# Altium footprint library Connector_PinHeader_2.54mm.PcbLib: 278 footprints (part 12 of 18)
Each footprint in its own frame and in the unit in brackets; x right, y up, seen from the top. Pads: shape width x height; smd on the part's side, far side on the other; paste and mask are expansions set on the pad; w line width, h text height; cw(c..) or ccw(c..) is an arc to the next point about the centre after c.
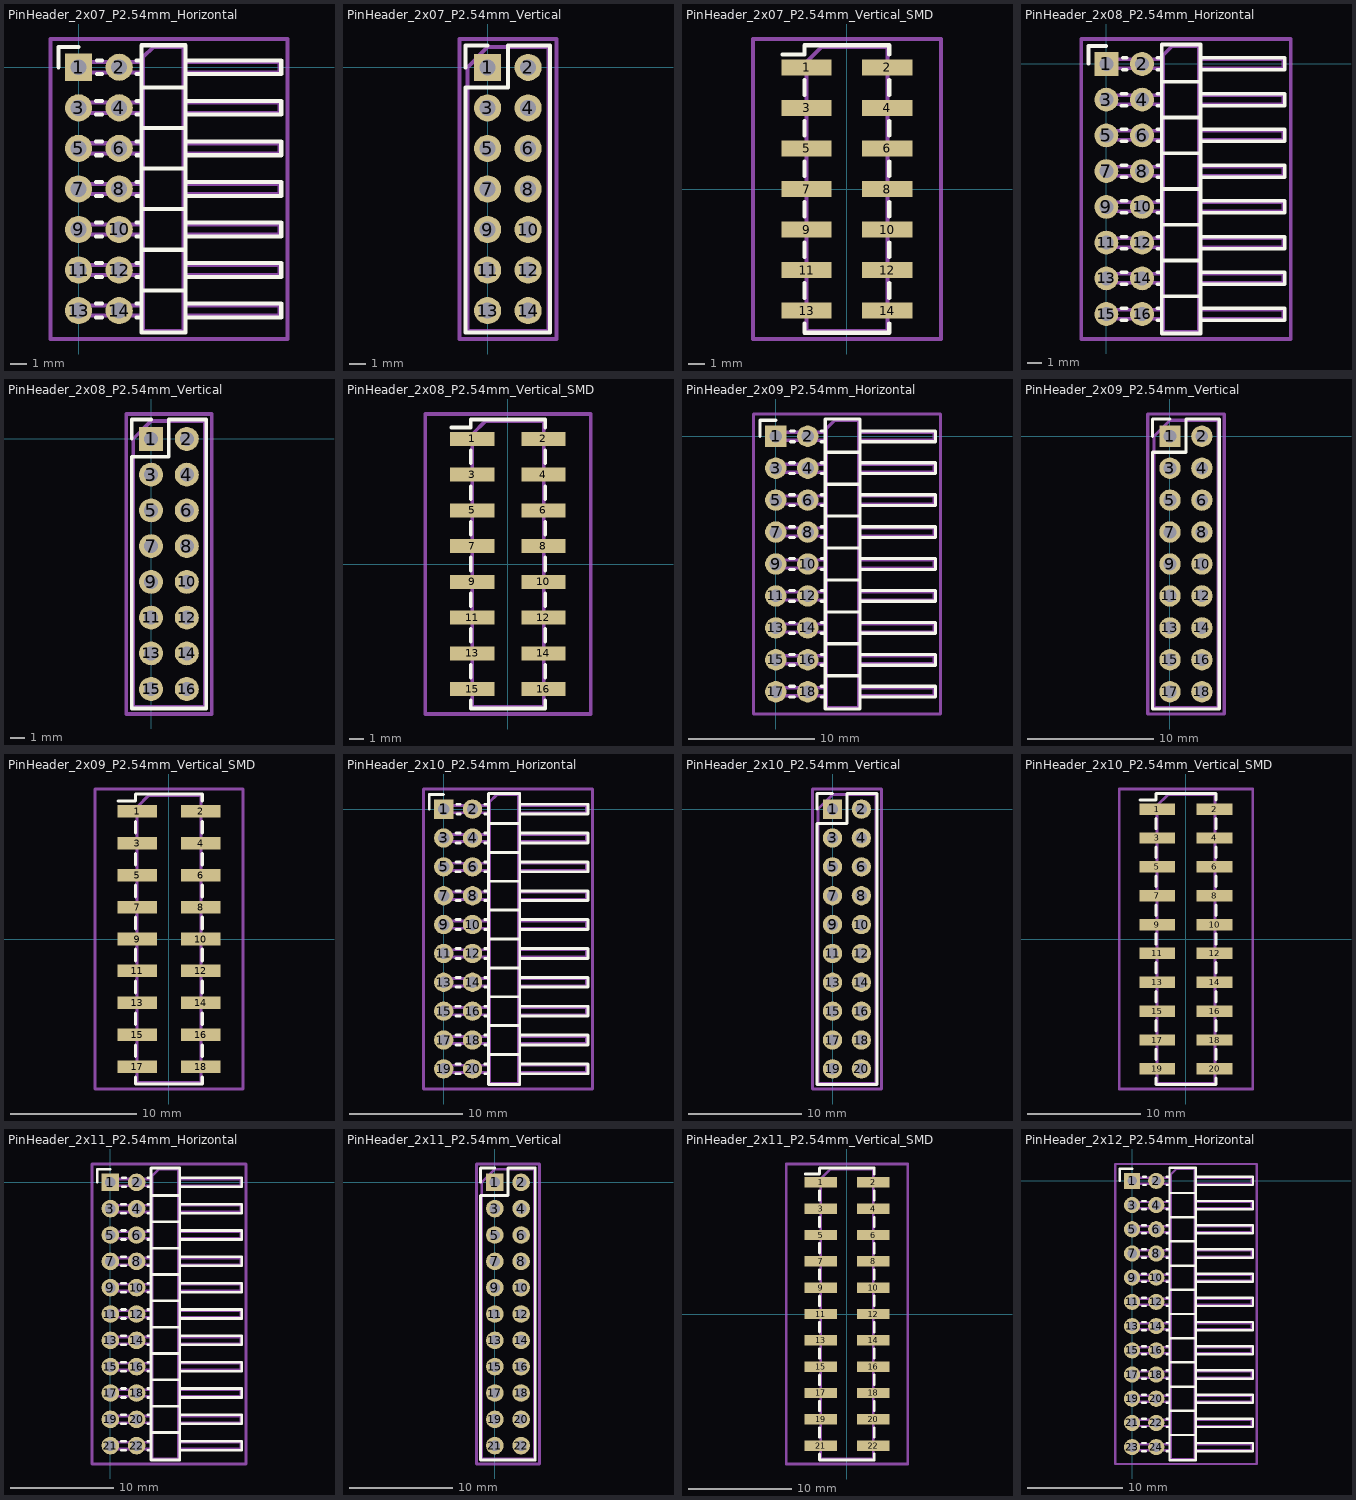
[diagram p11: the footprints below, top view; thin cyan lines are the x and y axes]

## PinHeader_2x07_P2.54mm_Horizontal [mm]
pads (14):
  rect 1.7x1.7 hole 1: 1(0,0)
  round 1.7 hole 1: 2(2.54,0) 3(0,-2.54) 4(2.54,-2.54) 5(0,-5.08) 6(2.54,-5.08) 7(0,-7.62) 8(2.54,-7.62) 9(0,-10.16) 10(2.54,-10.16) 11(0,-12.7) 12(2.54,-12.7) 13(0,-15.24) 14(2.54,-15.24)
F.SilkS:
  lines w0.254: -1.27,0 -1.27,1.27 0,1.27 ; 1.077,-15.67 1.463,-15.67 ; 1.077,-14.81 1.463,-14.81 ; 1.077,-13.13 1.463,-13.13 ; 1.077,-12.27 1.463,-12.27 ; 1.077,-10.59 1.463,-10.59 ; 1.077,-9.73 1.463,-9.73 ; 1.077,-8.05 1.463,-8.05 ; 1.077,-7.19 1.463,-7.19 ; 1.077,-5.51 1.463,-5.51 ; 1.077,-4.65 1.463,-4.65 ; 1.077,-2.97 1.463,-2.97 ; 1.077,-2.11 1.463,-2.11 ; 1.16,-0.43 1.463,-0.43 ; 1.16,0.43 1.463,0.43 ; 3.617,-15.67 3.93,-15.67 ; 3.617,-14.81 3.93,-14.81 ; 3.617,-13.13 3.93,-13.13 ; 3.617,-12.27 3.93,-12.27 ; 3.617,-10.59 3.93,-10.59 ; 3.617,-9.73 3.93,-9.73 ; 3.617,-8.05 3.93,-8.05 ; 3.617,-7.19 3.93,-7.19 ; 3.617,-5.51 3.93,-5.51 ; 3.617,-4.65 3.93,-4.65 ; 3.617,-2.97 3.93,-2.97 ; 3.617,-2.11 3.93,-2.11 ; 3.617,-0.43 3.93,-0.43 ; 3.617,0.43 3.93,0.43 ; 3.93,-13.97 6.69,-13.97 ; 3.93,-11.43 6.69,-11.43 ; 3.93,-8.89 6.69,-8.89 ; 3.93,-6.35 6.69,-6.35 ; 3.93,-3.81 6.69,-3.81 ; 3.93,-1.27 6.69,-1.27 ; 6.69,-15.67 12.69,-15.67 12.69,-14.81 6.69,-14.81 ; 6.69,-13.13 12.69,-13.13 12.69,-12.27 6.69,-12.27 ; 6.69,-10.59 12.69,-10.59 12.69,-9.73 6.69,-9.73 ; 6.69,-8.05 12.69,-8.05 12.69,-7.19 6.69,-7.19 ; 6.69,-5.51 12.69,-5.51 12.69,-4.65 6.69,-4.65 ; 6.69,-2.97 12.69,-2.97 12.69,-2.11 6.69,-2.11 ; 3.93,-16.62 6.69,-16.62 6.69,1.38 3.93,1.38 3.93,-16.62 ; 6.69,-0.43 12.69,-0.43 12.69,0.43 6.69,0.43 6.69,-0.43
Top Assembly:
  lines w0.254: 4.04,-15.56 -0.32,-15.56 -0.32,-14.92 4.04,-14.92 ; 4.04,-13.02 -0.32,-13.02 -0.32,-12.38 4.04,-12.38 ; 4.04,-10.48 -0.32,-10.48 -0.32,-9.84 4.04,-9.84 ; 4.04,-7.94 -0.32,-7.94 -0.32,-7.3 4.04,-7.3 ; 4.04,-5.4 -0.32,-5.4 -0.32,-4.76 4.04,-4.76 ; 4.04,-2.86 -0.32,-2.86 -0.32,-2.22 4.04,-2.22 ; 4.04,-0.32 -0.32,-0.32 -0.32,0.32 4.04,0.32 ; 6.58,-15.56 12.58,-15.56 12.58,-14.92 6.58,-14.92 ; 6.58,-13.02 12.58,-13.02 12.58,-12.38 6.58,-12.38 ; 6.58,-10.48 12.58,-10.48 12.58,-9.84 6.58,-9.84 ; 6.58,-7.94 12.58,-7.94 12.58,-7.3 6.58,-7.3 ; 6.58,-5.4 12.58,-5.4 12.58,-4.76 6.58,-4.76 ; 6.58,-2.86 12.58,-2.86 12.58,-2.22 6.58,-2.22 ; 6.58,-0.32 12.58,-0.32 12.58,0.32 6.58,0.32 ; 4.04,-16.51 6.58,-16.51 6.58,1.27 4.675,1.27 4.04,0.635 4.04,-16.51
  text "'.Designator'" at 6.15,-11.667 h1
Top Courtyard:
  lines w0.254: -1.77,-17.02 13.09,-17.02 13.09,1.77 -1.77,1.77 -1.77,-17.02
Top Designator:
  text ".Designator" at -1.958,-8.133 h1.52

## PinHeader_2x07_P2.54mm_Vertical [mm]
pads (14):
  rect 1.7x1.7 hole 1: 1(0,0)
  round 1.7 hole 1: 2(2.54,0) 3(0,-2.54) 4(2.54,-2.54) 5(0,-5.08) 6(2.54,-5.08) 7(0,-7.62) 8(2.54,-7.62) 9(0,-10.16) 10(2.54,-10.16) 11(0,-12.7) 12(2.54,-12.7) 13(0,-15.24) 14(2.54,-15.24)
F.SilkS:
  lines w0.254: -1.38,0 -1.38,1.38 0,1.38 ; -1.38,-16.62 3.92,-16.62 3.92,1.38 1.27,1.38 1.27,-1.27 -1.38,-1.27 -1.38,-16.62
Top Assembly:
  lines w0.254: -1.27,-16.51 3.81,-16.51 3.81,1.27 0,1.27 -1.27,0 -1.27,-16.51
  text "'.Designator'" at 2.11,-11.667 h1
Top Courtyard:
  lines w0.254: -1.77,-17.02 4.32,-17.02 4.32,1.78 -1.77,1.78 -1.77,-17.02
Top Designator:
  text ".Designator" at -6.343,-8.128 h1.52

## PinHeader_2x07_P2.54mm_Vertical_SMD [mm]
pads (14):
  rect 3.15x1 smd: 1(-2.525,7.62) 2(2.525,7.62) 3(-2.525,5.08) 4(2.525,5.08) 5(-2.525,2.54) 6(2.525,2.54) 7(-2.525,0) 8(2.525,0) 9(-2.525,-2.54) 10(2.525,-2.54) 11(-2.525,-5.08) 12(2.525,-5.08) 13(-2.525,-7.62) 14(2.525,-7.62)
F.SilkS:
  lines w0.254: -4.04,8.43 -2.65,8.43 -2.65,9 2.65,9 2.65,8.43 ; -2.65,-8.43 -2.65,-9 2.65,-9 2.65,-8.43 ; -2.65,-6.81 -2.65,-5.89 ; -2.65,-4.27 -2.65,-3.35 ; -2.65,-1.73 -2.65,-0.81 ; -2.65,0.81 -2.65,1.73 ; -2.65,3.35 -2.65,4.27 ; -2.65,5.89 -2.65,6.81 ; 2.65,-6.81 2.65,-5.89 ; 2.65,-4.27 2.65,-3.35 ; 2.65,-1.73 2.65,-0.81 ; 2.65,0.81 2.65,1.73 ; 2.65,3.35 2.65,4.27 ; 2.65,5.89 2.65,6.81
Top Assembly:
  lines w0.254: -2.54,-7.94 -3.6,-7.94 -3.6,-7.3 -2.54,-7.3 ; -2.54,-5.4 -3.6,-5.4 -3.6,-4.76 -2.54,-4.76 ; -2.54,-2.86 -3.6,-2.86 -3.6,-2.22 -2.54,-2.22 ; -2.54,-0.32 -3.6,-0.32 -3.6,0.32 -2.54,0.32 ; -2.54,2.22 -3.6,2.22 -3.6,2.86 -2.54,2.86 ; -2.54,4.76 -3.6,4.76 -3.6,5.4 -2.54,5.4 ; -2.54,7.3 -3.6,7.3 -3.6,7.94 -2.54,7.94 ; 2.54,-7.94 3.6,-7.94 3.6,-7.3 2.54,-7.3 ; 2.54,-5.4 3.6,-5.4 3.6,-4.76 2.54,-4.76 ; 2.54,-2.86 3.6,-2.86 3.6,-2.22 2.54,-2.22 ; 2.54,-0.32 3.6,-0.32 3.6,0.32 2.54,0.32 ; 2.54,2.22 3.6,2.22 3.6,2.86 2.54,2.86 ; 2.54,4.76 3.6,4.76 3.6,5.4 2.54,5.4 ; 2.54,7.3 3.6,7.3 3.6,7.94 2.54,7.94 ; -2.54,7.94 -2.54,-8.89 2.54,-8.89 2.54,8.89 -1.59,8.89 -2.54,7.94
  text "'.Designator'" at 0.84,-4.047 h1
Top Courtyard:
  lines w0.254: -5.87,-9.39 5.88,-9.39 5.88,9.39 -5.87,9.39 -5.87,-9.39
Top Designator:
  text ".Designator" at -7.613,-0.508 h1.52

## PinHeader_2x08_P2.54mm_Horizontal [mm]
pads (16):
  rect 1.7x1.7 hole 1: 1(0,0)
  round 1.7 hole 1: 2(2.54,0) 3(0,-2.54) 4(2.54,-2.54) 5(0,-5.08) 6(2.54,-5.08) 7(0,-7.62) 8(2.54,-7.62) 9(0,-10.16) 10(2.54,-10.16) 11(0,-12.7) 12(2.54,-12.7) 13(0,-15.24) 14(2.54,-15.24) 15(0,-17.78) 16(2.54,-17.78)
F.SilkS:
  lines w0.254: -1.27,0 -1.27,1.27 0,1.27 ; 1.077,-18.21 1.463,-18.21 ; 1.077,-17.35 1.463,-17.35 ; 1.077,-15.67 1.463,-15.67 ; 1.077,-14.81 1.463,-14.81 ; 1.077,-13.13 1.463,-13.13 ; 1.077,-12.27 1.463,-12.27 ; 1.077,-10.59 1.463,-10.59 ; 1.077,-9.73 1.463,-9.73 ; 1.077,-8.05 1.463,-8.05 ; 1.077,-7.19 1.463,-7.19 ; 1.077,-5.51 1.463,-5.51 ; 1.077,-4.65 1.463,-4.65 ; 1.077,-2.97 1.463,-2.97 ; 1.077,-2.11 1.463,-2.11 ; 1.16,-0.43 1.463,-0.43 ; 1.16,0.43 1.463,0.43 ; 3.617,-18.21 3.93,-18.21 ; 3.617,-17.35 3.93,-17.35 ; 3.617,-15.67 3.93,-15.67 ; 3.617,-14.81 3.93,-14.81 ; 3.617,-13.13 3.93,-13.13 ; 3.617,-12.27 3.93,-12.27 ; 3.617,-10.59 3.93,-10.59 ; 3.617,-9.73 3.93,-9.73 ; 3.617,-8.05 3.93,-8.05 ; 3.617,-7.19 3.93,-7.19 ; 3.617,-5.51 3.93,-5.51 ; 3.617,-4.65 3.93,-4.65 ; 3.617,-2.97 3.93,-2.97 ; 3.617,-2.11 3.93,-2.11 ; 3.617,-0.43 3.93,-0.43 ; 3.617,0.43 3.93,0.43 ; 3.93,-16.51 6.69,-16.51 ; 3.93,-13.97 6.69,-13.97 ; 3.93,-11.43 6.69,-11.43 ; 3.93,-8.89 6.69,-8.89 ; 3.93,-6.35 6.69,-6.35 ; 3.93,-3.81 6.69,-3.81 ; 3.93,-1.27 6.69,-1.27 ; 6.69,-18.21 12.69,-18.21 12.69,-17.35 6.69,-17.35 ; 6.69,-15.67 12.69,-15.67 12.69,-14.81 6.69,-14.81 ; 6.69,-13.13 12.69,-13.13 12.69,-12.27 6.69,-12.27 ; 6.69,-10.59 12.69,-10.59 12.69,-9.73 6.69,-9.73 ; 6.69,-8.05 12.69,-8.05 12.69,-7.19 6.69,-7.19 ; 6.69,-5.51 12.69,-5.51 12.69,-4.65 6.69,-4.65 ; 6.69,-2.97 12.69,-2.97 12.69,-2.11 6.69,-2.11 ; 3.93,-19.16 6.69,-19.16 6.69,1.38 3.93,1.38 3.93,-19.16 ; 6.69,-0.43 12.69,-0.43 12.69,0.43 6.69,0.43 6.69,-0.43
Top Assembly:
  lines w0.254: 4.04,-18.1 -0.32,-18.1 -0.32,-17.46 4.04,-17.46 ; 4.04,-15.56 -0.32,-15.56 -0.32,-14.92 4.04,-14.92 ; 4.04,-13.02 -0.32,-13.02 -0.32,-12.38 4.04,-12.38 ; 4.04,-10.48 -0.32,-10.48 -0.32,-9.84 4.04,-9.84 ; 4.04,-7.94 -0.32,-7.94 -0.32,-7.3 4.04,-7.3 ; 4.04,-5.4 -0.32,-5.4 -0.32,-4.76 4.04,-4.76 ; 4.04,-2.86 -0.32,-2.86 -0.32,-2.22 4.04,-2.22 ; 4.04,-0.32 -0.32,-0.32 -0.32,0.32 4.04,0.32 ; 6.58,-18.1 12.58,-18.1 12.58,-17.46 6.58,-17.46 ; 6.58,-15.56 12.58,-15.56 12.58,-14.92 6.58,-14.92 ; 6.58,-13.02 12.58,-13.02 12.58,-12.38 6.58,-12.38 ; 6.58,-10.48 12.58,-10.48 12.58,-9.84 6.58,-9.84 ; 6.58,-7.94 12.58,-7.94 12.58,-7.3 6.58,-7.3 ; 6.58,-5.4 12.58,-5.4 12.58,-4.76 6.58,-4.76 ; 6.58,-2.86 12.58,-2.86 12.58,-2.22 6.58,-2.22 ; 6.58,-0.32 12.58,-0.32 12.58,0.32 6.58,0.32 ; 4.04,-19.05 6.58,-19.05 6.58,1.27 4.675,1.27 4.04,0.635 4.04,-19.05
  text "'.Designator'" at 6.15,-12.937 h1
Top Courtyard:
  lines w0.254: -1.77,-19.55 13.09,-19.55 13.09,1.77 -1.77,1.77 -1.77,-19.55
Top Designator:
  text ".Designator" at -1.958,-9.398 h1.52

## PinHeader_2x08_P2.54mm_Vertical [mm]
pads (16):
  rect 1.7x1.7 hole 1: 1(0,0)
  round 1.7 hole 1: 2(2.54,0) 3(0,-2.54) 4(2.54,-2.54) 5(0,-5.08) 6(2.54,-5.08) 7(0,-7.62) 8(2.54,-7.62) 9(0,-10.16) 10(2.54,-10.16) 11(0,-12.7) 12(2.54,-12.7) 13(0,-15.24) 14(2.54,-15.24) 15(0,-17.78) 16(2.54,-17.78)
F.SilkS:
  lines w0.254: -1.38,0 -1.38,1.38 0,1.38 ; -1.38,-19.16 3.92,-19.16 3.92,1.38 1.27,1.38 1.27,-1.27 -1.38,-1.27 -1.38,-19.16
Top Assembly:
  lines w0.254: -1.27,-19.05 3.81,-19.05 3.81,1.27 0,1.27 -1.27,0 -1.27,-19.05
  text "'.Designator'" at 2.11,-12.937 h1
Top Courtyard:
  lines w0.254: -1.77,-19.55 4.32,-19.55 4.32,1.77 -1.77,1.77 -1.77,-19.55
Top Designator:
  text ".Designator" at -6.343,-9.398 h1.52

## PinHeader_2x08_P2.54mm_Vertical_SMD [mm]
pads (16):
  rect 3.15x1 smd: 1(-2.525,8.89) 2(2.525,8.89) 3(-2.525,6.35) 4(2.525,6.35) 5(-2.525,3.81) 6(2.525,3.81) 7(-2.525,1.27) 8(2.525,1.27) 9(-2.525,-1.27) 10(2.525,-1.27) 11(-2.525,-3.81) 12(2.525,-3.81) 13(-2.525,-6.35) 14(2.525,-6.35) 15(-2.525,-8.89) 16(2.525,-8.89)
F.SilkS:
  lines w0.254: -4.04,9.7 -2.65,9.7 -2.65,10.27 2.65,10.27 2.65,9.7 ; -2.65,-9.7 -2.65,-10.27 2.65,-10.27 2.65,-9.7 ; -2.65,-8.08 -2.65,-7.16 ; -2.65,-5.54 -2.65,-4.62 ; -2.65,-3 -2.65,-2.08 ; -2.65,-0.46 -2.65,0.46 ; -2.65,2.08 -2.65,3 ; -2.65,4.62 -2.65,5.54 ; -2.65,7.16 -2.65,8.08 ; 2.65,-8.08 2.65,-7.16 ; 2.65,-5.54 2.65,-4.62 ; 2.65,-3 2.65,-2.08 ; 2.65,-0.46 2.65,0.46 ; 2.65,2.08 2.65,3 ; 2.65,4.62 2.65,5.54 ; 2.65,7.16 2.65,8.08
Top Assembly:
  lines w0.254: -2.54,-9.21 -3.6,-9.21 -3.6,-8.57 -2.54,-8.57 ; -2.54,-6.67 -3.6,-6.67 -3.6,-6.03 -2.54,-6.03 ; -2.54,-4.13 -3.6,-4.13 -3.6,-3.49 -2.54,-3.49 ; -2.54,-1.59 -3.6,-1.59 -3.6,-0.95 -2.54,-0.95 ; -2.54,0.95 -3.6,0.95 -3.6,1.59 -2.54,1.59 ; -2.54,3.49 -3.6,3.49 -3.6,4.13 -2.54,4.13 ; -2.54,6.03 -3.6,6.03 -3.6,6.67 -2.54,6.67 ; -2.54,8.57 -3.6,8.57 -3.6,9.21 -2.54,9.21 ; 2.54,-9.21 3.6,-9.21 3.6,-8.57 2.54,-8.57 ; 2.54,-6.67 3.6,-6.67 3.6,-6.03 2.54,-6.03 ; 2.54,-4.13 3.6,-4.13 3.6,-3.49 2.54,-3.49 ; 2.54,-1.59 3.6,-1.59 3.6,-0.95 2.54,-0.95 ; 2.54,0.95 3.6,0.95 3.6,1.59 2.54,1.59 ; 2.54,3.49 3.6,3.49 3.6,4.13 2.54,4.13 ; 2.54,6.03 3.6,6.03 3.6,6.67 2.54,6.67 ; 2.54,8.57 3.6,8.57 3.6,9.21 2.54,9.21 ; -2.54,9.21 -2.54,-10.16 2.54,-10.16 2.54,10.16 -1.59,10.16 -2.54,9.21
  text "'.Designator'" at 0.84,-4.047 h1
Top Courtyard:
  lines w0.254: -5.87,-10.66 5.88,-10.66 5.88,10.66 -5.87,10.66 -5.87,-10.66
Top Designator:
  text ".Designator" at -7.613,-0.508 h1.52

## PinHeader_2x09_P2.54mm_Horizontal [mm]
pads (18):
  rect 1.7x1.7 hole 1: 1(0,0)
  round 1.7 hole 1: 2(2.54,0) 3(0,-2.54) 4(2.54,-2.54) 5(0,-5.08) 6(2.54,-5.08) 7(0,-7.62) 8(2.54,-7.62) 9(0,-10.16) 10(2.54,-10.16) 11(0,-12.7) 12(2.54,-12.7) 13(0,-15.24) 14(2.54,-15.24) 15(0,-17.78) 16(2.54,-17.78) 17(0,-20.32) 18(2.54,-20.32)
F.SilkS:
  lines w0.254: -1.27,0 -1.27,1.27 0,1.27 ; 1.077,-20.75 1.463,-20.75 ; 1.077,-19.89 1.463,-19.89 ; 1.077,-18.21 1.463,-18.21 ; 1.077,-17.35 1.463,-17.35 ; 1.077,-15.67 1.463,-15.67 ; 1.077,-14.81 1.463,-14.81 ; 1.077,-13.13 1.463,-13.13 ; 1.077,-12.27 1.463,-12.27 ; 1.077,-10.59 1.463,-10.59 ; 1.077,-9.73 1.463,-9.73 ; 1.077,-8.05 1.463,-8.05 ; 1.077,-7.19 1.463,-7.19 ; 1.077,-5.51 1.463,-5.51 ; 1.077,-4.65 1.463,-4.65 ; 1.077,-2.97 1.463,-2.97 ; 1.077,-2.11 1.463,-2.11 ; 1.16,-0.43 1.463,-0.43 ; 1.16,0.43 1.463,0.43 ; 3.617,-20.75 3.93,-20.75 ; 3.617,-19.89 3.93,-19.89 ; 3.617,-18.21 3.93,-18.21 ; 3.617,-17.35 3.93,-17.35 ; 3.617,-15.67 3.93,-15.67 ; 3.617,-14.81 3.93,-14.81 ; 3.617,-13.13 3.93,-13.13 ; 3.617,-12.27 3.93,-12.27 ; 3.617,-10.59 3.93,-10.59 ; 3.617,-9.73 3.93,-9.73 ; 3.617,-8.05 3.93,-8.05 ; 3.617,-7.19 3.93,-7.19 ; 3.617,-5.51 3.93,-5.51 ; 3.617,-4.65 3.93,-4.65 ; 3.617,-2.97 3.93,-2.97 ; 3.617,-2.11 3.93,-2.11 ; 3.617,-0.43 3.93,-0.43 ; 3.617,0.43 3.93,0.43 ; 3.93,-19.05 6.69,-19.05 ; 3.93,-16.51 6.69,-16.51 ; 3.93,-13.97 6.69,-13.97 ; 3.93,-11.43 6.69,-11.43 ; 3.93,-8.89 6.69,-8.89 ; 3.93,-6.35 6.69,-6.35 ; 3.93,-3.81 6.69,-3.81 ; 3.93,-1.27 6.69,-1.27 ; 6.69,-20.75 12.69,-20.75 12.69,-19.89 6.69,-19.89 ; 6.69,-18.21 12.69,-18.21 12.69,-17.35 6.69,-17.35 ; 6.69,-15.67 12.69,-15.67 12.69,-14.81 6.69,-14.81 ; 6.69,-13.13 12.69,-13.13 12.69,-12.27 6.69,-12.27 ; 6.69,-10.59 12.69,-10.59 12.69,-9.73 6.69,-9.73 ; 6.69,-8.05 12.69,-8.05 12.69,-7.19 6.69,-7.19 ; 6.69,-5.51 12.69,-5.51 12.69,-4.65 6.69,-4.65 ; 6.69,-2.97 12.69,-2.97 12.69,-2.11 6.69,-2.11 ; 3.93,-21.7 6.69,-21.7 6.69,1.38 3.93,1.38 3.93,-21.7 ; 6.69,-0.43 12.69,-0.43 12.69,0.43 6.69,0.43 6.69,-0.43
Top Assembly:
  lines w0.254: 4.04,-20.64 -0.32,-20.64 -0.32,-20 4.04,-20 ; 4.04,-18.1 -0.32,-18.1 -0.32,-17.46 4.04,-17.46 ; 4.04,-15.56 -0.32,-15.56 -0.32,-14.92 4.04,-14.92 ; 4.04,-13.02 -0.32,-13.02 -0.32,-12.38 4.04,-12.38 ; 4.04,-10.48 -0.32,-10.48 -0.32,-9.84 4.04,-9.84 ; 4.04,-7.94 -0.32,-7.94 -0.32,-7.3 4.04,-7.3 ; 4.04,-5.4 -0.32,-5.4 -0.32,-4.76 4.04,-4.76 ; 4.04,-2.86 -0.32,-2.86 -0.32,-2.22 4.04,-2.22 ; 4.04,-0.32 -0.32,-0.32 -0.32,0.32 4.04,0.32 ; 6.58,-20.64 12.58,-20.64 12.58,-20 6.58,-20 ; 6.58,-18.1 12.58,-18.1 12.58,-17.46 6.58,-17.46 ; 6.58,-15.56 12.58,-15.56 12.58,-14.92 6.58,-14.92 ; 6.58,-13.02 12.58,-13.02 12.58,-12.38 6.58,-12.38 ; 6.58,-10.48 12.58,-10.48 12.58,-9.84 6.58,-9.84 ; 6.58,-7.94 12.58,-7.94 12.58,-7.3 6.58,-7.3 ; 6.58,-5.4 12.58,-5.4 12.58,-4.76 6.58,-4.76 ; 6.58,-2.86 12.58,-2.86 12.58,-2.22 6.58,-2.22 ; 6.58,-0.32 12.58,-0.32 12.58,0.32 6.58,0.32 ; 4.04,-21.59 6.58,-21.59 6.58,1.27 4.675,1.27 4.04,0.635 4.04,-21.59
  text "'.Designator'" at 6.15,-14.207 h1
Top Courtyard:
  lines w0.254: -1.77,-22.09 13.09,-22.09 13.09,1.77 -1.77,1.77 -1.77,-22.09
Top Designator:
  text ".Designator" at -1.958,-10.668 h1.52

## PinHeader_2x09_P2.54mm_Vertical [mm]
pads (18):
  rect 1.7x1.7 hole 1: 1(0,0)
  round 1.7 hole 1: 2(2.54,0) 3(0,-2.54) 4(2.54,-2.54) 5(0,-5.08) 6(2.54,-5.08) 7(0,-7.62) 8(2.54,-7.62) 9(0,-10.16) 10(2.54,-10.16) 11(0,-12.7) 12(2.54,-12.7) 13(0,-15.24) 14(2.54,-15.24) 15(0,-17.78) 16(2.54,-17.78) 17(0,-20.32) 18(2.54,-20.32)
F.SilkS:
  lines w0.254: -1.38,0 -1.38,1.38 0,1.38 ; -1.38,-21.7 3.92,-21.7 3.92,1.38 1.27,1.38 1.27,-1.27 -1.38,-1.27 -1.38,-21.7
Top Assembly:
  lines w0.254: -1.27,-21.59 3.81,-21.59 3.81,1.27 0,1.27 -1.27,0 -1.27,-21.59
  text "'.Designator'" at 2.11,-14.207 h1
Top Courtyard:
  lines w0.254: -1.77,-22.09 4.32,-22.09 4.32,1.77 -1.77,1.77 -1.77,-22.09
Top Designator:
  text ".Designator" at -6.343,-10.668 h1.52

## PinHeader_2x09_P2.54mm_Vertical_SMD [mm]
pads (18):
  rect 3.15x1 smd: 1(-2.525,10.16) 2(2.525,10.16) 3(-2.525,7.62) 4(2.525,7.62) 5(-2.525,5.08) 6(2.525,5.08) 7(-2.525,2.54) 8(2.525,2.54) 9(-2.525,0) 10(2.525,0) 11(-2.525,-2.54) 12(2.525,-2.54) 13(-2.525,-5.08) 14(2.525,-5.08) 15(-2.525,-7.62) 16(2.525,-7.62) 17(-2.525,-10.16) 18(2.525,-10.16)
F.SilkS:
  lines w0.254: -4.04,10.97 -2.65,10.97 -2.65,11.54 2.65,11.54 2.65,10.97 ; -2.65,-10.97 -2.65,-11.54 2.65,-11.54 2.65,-10.97 ; -2.65,-9.35 -2.65,-8.43 ; -2.65,-6.81 -2.65,-5.89 ; -2.65,-4.27 -2.65,-3.35 ; -2.65,-1.73 -2.65,-0.81 ; -2.65,0.81 -2.65,1.73 ; -2.65,3.35 -2.65,4.27 ; -2.65,5.89 -2.65,6.81 ; -2.65,8.43 -2.65,9.35 ; 2.65,-9.35 2.65,-8.43 ; 2.65,-6.81 2.65,-5.89 ; 2.65,-4.27 2.65,-3.35 ; 2.65,-1.73 2.65,-0.81 ; 2.65,0.81 2.65,1.73 ; 2.65,3.35 2.65,4.27 ; 2.65,5.89 2.65,6.81 ; 2.65,8.43 2.65,9.35
Top Assembly:
  lines w0.254: -2.54,-10.48 -3.6,-10.48 -3.6,-9.84 -2.54,-9.84 ; -2.54,-7.94 -3.6,-7.94 -3.6,-7.3 -2.54,-7.3 ; -2.54,-5.4 -3.6,-5.4 -3.6,-4.76 -2.54,-4.76 ; -2.54,-2.86 -3.6,-2.86 -3.6,-2.22 -2.54,-2.22 ; -2.54,-0.32 -3.6,-0.32 -3.6,0.32 -2.54,0.32 ; -2.54,2.22 -3.6,2.22 -3.6,2.86 -2.54,2.86 ; -2.54,4.76 -3.6,4.76 -3.6,5.4 -2.54,5.4 ; -2.54,7.3 -3.6,7.3 -3.6,7.94 -2.54,7.94 ; -2.54,9.84 -3.6,9.84 -3.6,10.48 -2.54,10.48 ; 2.54,-10.48 3.6,-10.48 3.6,-9.84 2.54,-9.84 ; 2.54,-7.94 3.6,-7.94 3.6,-7.3 2.54,-7.3 ; 2.54,-5.4 3.6,-5.4 3.6,-4.76 2.54,-4.76 ; 2.54,-2.86 3.6,-2.86 3.6,-2.22 2.54,-2.22 ; 2.54,-0.32 3.6,-0.32 3.6,0.32 2.54,0.32 ; 2.54,2.22 3.6,2.22 3.6,2.86 2.54,2.86 ; 2.54,4.76 3.6,4.76 3.6,5.4 2.54,5.4 ; 2.54,7.3 3.6,7.3 3.6,7.94 2.54,7.94 ; 2.54,9.84 3.6,9.84 3.6,10.48 2.54,10.48 ; -2.54,10.48 -2.54,-11.43 2.54,-11.43 2.54,11.43 -1.59,11.43 -2.54,10.48
  text "'.Designator'" at 0.84,-4.047 h1
Top Courtyard:
  lines w0.254: -5.87,-11.93 5.88,-11.93 5.88,11.93 -5.87,11.93 -5.87,-11.93
Top Designator:
  text ".Designator" at -7.613,-0.508 h1.52

## PinHeader_2x10_P2.54mm_Horizontal [mm]
pads (20):
  rect 1.7x1.7 hole 1: 1(0,0)
  round 1.7 hole 1: 2(2.54,0) 3(0,-2.54) 4(2.54,-2.54) 5(0,-5.08) 6(2.54,-5.08) 7(0,-7.62) 8(2.54,-7.62) 9(0,-10.16) 10(2.54,-10.16) 11(0,-12.7) 12(2.54,-12.7) 13(0,-15.24) 14(2.54,-15.24) 15(0,-17.78) 16(2.54,-17.78) 17(0,-20.32) 18(2.54,-20.32) 19(0,-22.86) 20(2.54,-22.86)
F.SilkS:
  lines w0.254: -1.27,0 -1.27,1.27 0,1.27 ; 1.077,-23.29 1.463,-23.29 ; 1.077,-22.43 1.463,-22.43 ; 1.077,-20.75 1.463,-20.75 ; 1.077,-19.89 1.463,-19.89 ; 1.077,-18.21 1.463,-18.21 ; 1.077,-17.35 1.463,-17.35 ; 1.077,-15.67 1.463,-15.67 ; 1.077,-14.81 1.463,-14.81 ; 1.077,-13.13 1.463,-13.13 ; 1.077,-12.27 1.463,-12.27 ; 1.077,-10.59 1.463,-10.59 ; 1.077,-9.73 1.463,-9.73 ; 1.077,-8.05 1.463,-8.05 ; 1.077,-7.19 1.463,-7.19 ; 1.077,-5.51 1.463,-5.51 ; 1.077,-4.65 1.463,-4.65 ; 1.077,-2.97 1.463,-2.97 ; 1.077,-2.11 1.463,-2.11 ; 1.16,-0.43 1.463,-0.43 ; 1.16,0.43 1.463,0.43 ; 3.617,-23.29 3.93,-23.29 ; 3.617,-22.43 3.93,-22.43 ; 3.617,-20.75 3.93,-20.75 ; 3.617,-19.89 3.93,-19.89 ; 3.617,-18.21 3.93,-18.21 ; 3.617,-17.35 3.93,-17.35 ; 3.617,-15.67 3.93,-15.67 ; 3.617,-14.81 3.93,-14.81 ; 3.617,-13.13 3.93,-13.13 ; 3.617,-12.27 3.93,-12.27 ; 3.617,-10.59 3.93,-10.59 ; 3.617,-9.73 3.93,-9.73 ; 3.617,-8.05 3.93,-8.05 ; 3.617,-7.19 3.93,-7.19 ; 3.617,-5.51 3.93,-5.51 ; 3.617,-4.65 3.93,-4.65 ; 3.617,-2.97 3.93,-2.97 ; 3.617,-2.11 3.93,-2.11 ; 3.617,-0.43 3.93,-0.43 ; 3.617,0.43 3.93,0.43 ; 3.93,-21.59 6.69,-21.59 ; 3.93,-19.05 6.69,-19.05 ; 3.93,-16.51 6.69,-16.51 ; 3.93,-13.97 6.69,-13.97 ; 3.93,-11.43 6.69,-11.43 ; 3.93,-8.89 6.69,-8.89 ; 3.93,-6.35 6.69,-6.35 ; 3.93,-3.81 6.69,-3.81 ; 3.93,-1.27 6.69,-1.27 ; 6.69,-23.29 12.69,-23.29 12.69,-22.43 6.69,-22.43 ; 6.69,-20.75 12.69,-20.75 12.69,-19.89 6.69,-19.89 ; 6.69,-18.21 12.69,-18.21 12.69,-17.35 6.69,-17.35 ; 6.69,-15.67 12.69,-15.67 12.69,-14.81 6.69,-14.81 ; 6.69,-13.13 12.69,-13.13 12.69,-12.27 6.69,-12.27 ; 6.69,-10.59 12.69,-10.59 12.69,-9.73 6.69,-9.73 ; 6.69,-8.05 12.69,-8.05 12.69,-7.19 6.69,-7.19 ; 6.69,-5.51 12.69,-5.51 12.69,-4.65 6.69,-4.65 ; 6.69,-2.97 12.69,-2.97 12.69,-2.11 6.69,-2.11 ; 3.93,-24.24 6.69,-24.24 6.69,1.38 3.93,1.38 3.93,-24.24 ; 6.69,-0.43 12.69,-0.43 12.69,0.43 6.69,0.43 6.69,-0.43
Top Assembly:
  lines w0.254: 4.04,-23.18 -0.32,-23.18 -0.32,-22.54 4.04,-22.54 ; 4.04,-20.64 -0.32,-20.64 -0.32,-20 4.04,-20 ; 4.04,-18.1 -0.32,-18.1 -0.32,-17.46 4.04,-17.46 ; 4.04,-15.56 -0.32,-15.56 -0.32,-14.92 4.04,-14.92 ; 4.04,-13.02 -0.32,-13.02 -0.32,-12.38 4.04,-12.38 ; 4.04,-10.48 -0.32,-10.48 -0.32,-9.84 4.04,-9.84 ; 4.04,-7.94 -0.32,-7.94 -0.32,-7.3 4.04,-7.3 ; 4.04,-5.4 -0.32,-5.4 -0.32,-4.76 4.04,-4.76 ; 4.04,-2.86 -0.32,-2.86 -0.32,-2.22 4.04,-2.22 ; 4.04,-0.32 -0.32,-0.32 -0.32,0.32 4.04,0.32 ; 6.58,-23.18 12.58,-23.18 12.58,-22.54 6.58,-22.54 ; 6.58,-20.64 12.58,-20.64 12.58,-20 6.58,-20 ; 6.58,-18.1 12.58,-18.1 12.58,-17.46 6.58,-17.46 ; 6.58,-15.56 12.58,-15.56 12.58,-14.92 6.58,-14.92 ; 6.58,-13.02 12.58,-13.02 12.58,-12.38 6.58,-12.38 ; 6.58,-10.48 12.58,-10.48 12.58,-9.84 6.58,-9.84 ; 6.58,-7.94 12.58,-7.94 12.58,-7.3 6.58,-7.3 ; 6.58,-5.4 12.58,-5.4 12.58,-4.76 6.58,-4.76 ; 6.58,-2.86 12.58,-2.86 12.58,-2.22 6.58,-2.22 ; 6.58,-0.32 12.58,-0.32 12.58,0.32 6.58,0.32 ; 4.04,-24.13 6.58,-24.13 6.58,1.27 4.675,1.27 4.04,0.635 4.04,-24.13
  text "'.Designator'" at 6.15,-15.477 h1
Top Courtyard:
  lines w0.254: -1.77,-24.63 13.09,-24.63 13.09,1.77 -1.77,1.77 -1.77,-24.63
Top Designator:
  text ".Designator" at -1.958,-11.938 h1.52

## PinHeader_2x10_P2.54mm_Vertical [mm]
pads (20):
  rect 1.7x1.7 hole 1: 1(0,0)
  round 1.7 hole 1: 2(2.54,0) 3(0,-2.54) 4(2.54,-2.54) 5(0,-5.08) 6(2.54,-5.08) 7(0,-7.62) 8(2.54,-7.62) 9(0,-10.16) 10(2.54,-10.16) 11(0,-12.7) 12(2.54,-12.7) 13(0,-15.24) 14(2.54,-15.24) 15(0,-17.78) 16(2.54,-17.78) 17(0,-20.32) 18(2.54,-20.32) 19(0,-22.86) 20(2.54,-22.86)
F.SilkS:
  lines w0.254: -1.38,0 -1.38,1.38 0,1.38 ; -1.38,-24.24 3.92,-24.24 3.92,1.38 1.27,1.38 1.27,-1.27 -1.38,-1.27 -1.38,-24.24
Top Assembly:
  lines w0.254: -1.27,-24.13 3.81,-24.13 3.81,1.27 0,1.27 -1.27,0 -1.27,-24.13
  text "'.Designator'" at 2.11,-15.477 h1
Top Courtyard:
  lines w0.254: -1.77,-24.63 4.32,-24.63 4.32,1.77 -1.77,1.77 -1.77,-24.63
Top Designator:
  text ".Designator" at -6.343,-11.938 h1.52

## PinHeader_2x10_P2.54mm_Vertical_SMD [mm]
pads (20):
  rect 3.15x1 smd: 1(-2.525,11.43) 2(2.525,11.43) 3(-2.525,8.89) 4(2.525,8.89) 5(-2.525,6.35) 6(2.525,6.35) 7(-2.525,3.81) 8(2.525,3.81) 9(-2.525,1.27) 10(2.525,1.27) 11(-2.525,-1.27) 12(2.525,-1.27) 13(-2.525,-3.81) 14(2.525,-3.81) 15(-2.525,-6.35) 16(2.525,-6.35) 17(-2.525,-8.89) 18(2.525,-8.89) 19(-2.525,-11.43) 20(2.525,-11.43)
F.SilkS:
  lines w0.254: -4.04,12.24 -2.65,12.24 -2.65,12.81 2.65,12.81 2.65,12.24 ; -2.65,-12.24 -2.65,-12.81 2.65,-12.81 2.65,-12.24 ; -2.65,-10.62 -2.65,-9.7 ; -2.65,-8.08 -2.65,-7.16 ; -2.65,-5.54 -2.65,-4.62 ; -2.65,-3 -2.65,-2.08 ; -2.65,-0.46 -2.65,0.46 ; -2.65,2.08 -2.65,3 ; -2.65,4.62 -2.65,5.54 ; -2.65,7.16 -2.65,8.08 ; -2.65,9.7 -2.65,10.62 ; 2.65,-10.62 2.65,-9.7 ; 2.65,-8.08 2.65,-7.16 ; 2.65,-5.54 2.65,-4.62 ; 2.65,-3 2.65,-2.08 ; 2.65,-0.46 2.65,0.46 ; 2.65,2.08 2.65,3 ; 2.65,4.62 2.65,5.54 ; 2.65,7.16 2.65,8.08 ; 2.65,9.7 2.65,10.62
Top Assembly:
  lines w0.254: -2.54,-11.75 -3.6,-11.75 -3.6,-11.11 -2.54,-11.11 ; -2.54,-9.21 -3.6,-9.21 -3.6,-8.57 -2.54,-8.57 ; -2.54,-6.67 -3.6,-6.67 -3.6,-6.03 -2.54,-6.03 ; -2.54,-4.13 -3.6,-4.13 -3.6,-3.49 -2.54,-3.49 ; -2.54,-1.59 -3.6,-1.59 -3.6,-0.95 -2.54,-0.95 ; -2.54,0.95 -3.6,0.95 -3.6,1.59 -2.54,1.59 ; -2.54,3.49 -3.6,3.49 -3.6,4.13 -2.54,4.13 ; -2.54,6.03 -3.6,6.03 -3.6,6.67 -2.54,6.67 ; -2.54,8.57 -3.6,8.57 -3.6,9.21 -2.54,9.21 ; -2.54,11.11 -3.6,11.11 -3.6,11.75 -2.54,11.75 ; 2.54,-11.75 3.6,-11.75 3.6,-11.11 2.54,-11.11 ; 2.54,-9.21 3.6,-9.21 3.6,-8.57 2.54,-8.57 ; 2.54,-6.67 3.6,-6.67 3.6,-6.03 2.54,-6.03 ; 2.54,-4.13 3.6,-4.13 3.6,-3.49 2.54,-3.49 ; 2.54,-1.59 3.6,-1.59 3.6,-0.95 2.54,-0.95 ; 2.54,0.95 3.6,0.95 3.6,1.59 2.54,1.59 ; 2.54,3.49 3.6,3.49 3.6,4.13 2.54,4.13 ; 2.54,6.03 3.6,6.03 3.6,6.67 2.54,6.67 ; 2.54,8.57 3.6,8.57 3.6,9.21 2.54,9.21 ; 2.54,11.11 3.6,11.11 3.6,11.75 2.54,11.75 ; -2.54,11.75 -2.54,-12.7 2.54,-12.7 2.54,12.7 -1.59,12.7 -2.54,11.75
  text "'.Designator'" at 0.84,-4.047 h1
Top Courtyard:
  lines w0.254: -5.87,-13.2 5.88,-13.2 5.88,13.2 -5.87,13.2 -5.87,-13.2
Top Designator:
  text ".Designator" at -7.613,-0.508 h1.52

## PinHeader_2x11_P2.54mm_Horizontal [mm]
pads (22):
  rect 1.7x1.7 hole 1: 1(0,0)
  round 1.7 hole 1: 2(2.54,0) 3(0,-2.54) 4(2.54,-2.54) 5(0,-5.08) 6(2.54,-5.08) 7(0,-7.62) 8(2.54,-7.62) 9(0,-10.16) 10(2.54,-10.16) 11(0,-12.7) 12(2.54,-12.7) 13(0,-15.24) 14(2.54,-15.24) 15(0,-17.78) 16(2.54,-17.78) 17(0,-20.32) 18(2.54,-20.32) 19(0,-22.86) 20(2.54,-22.86) 21(0,-25.4) 22(2.54,-25.4)
F.SilkS:
  lines w0.254: -1.27,0 -1.27,1.27 0,1.27 ; 1.077,-25.83 1.463,-25.83 ; 1.077,-24.97 1.463,-24.97 ; 1.077,-23.29 1.463,-23.29 ; 1.077,-22.43 1.463,-22.43 ; 1.077,-20.75 1.463,-20.75 ; 1.077,-19.89 1.463,-19.89 ; 1.077,-18.21 1.463,-18.21 ; 1.077,-17.35 1.463,-17.35 ; 1.077,-15.67 1.463,-15.67 ; 1.077,-14.81 1.463,-14.81 ; 1.077,-13.13 1.463,-13.13 ; 1.077,-12.27 1.463,-12.27 ; 1.077,-10.59 1.463,-10.59 ; 1.077,-9.73 1.463,-9.73 ; 1.077,-8.05 1.463,-8.05 ; 1.077,-7.19 1.463,-7.19 ; 1.077,-5.51 1.463,-5.51 ; 1.077,-4.65 1.463,-4.65 ; 1.077,-2.97 1.463,-2.97 ; 1.077,-2.11 1.463,-2.11 ; 1.16,-0.43 1.463,-0.43 ; 1.16,0.43 1.463,0.43 ; 3.617,-25.83 3.93,-25.83 ; 3.617,-24.97 3.93,-24.97 ; 3.617,-23.29 3.93,-23.29 ; 3.617,-22.43 3.93,-22.43 ; 3.617,-20.75 3.93,-20.75 ; 3.617,-19.89 3.93,-19.89 ; 3.617,-18.21 3.93,-18.21 ; 3.617,-17.35 3.93,-17.35 ; 3.617,-15.67 3.93,-15.67 ; 3.617,-14.81 3.93,-14.81 ; 3.617,-13.13 3.93,-13.13 ; 3.617,-12.27 3.93,-12.27 ; 3.617,-10.59 3.93,-10.59 ; 3.617,-9.73 3.93,-9.73 ; 3.617,-8.05 3.93,-8.05 ; 3.617,-7.19 3.93,-7.19 ; 3.617,-5.51 3.93,-5.51 ; 3.617,-4.65 3.93,-4.65 ; 3.617,-2.97 3.93,-2.97 ; 3.617,-2.11 3.93,-2.11 ; 3.617,-0.43 3.93,-0.43 ; 3.617,0.43 3.93,0.43 ; 3.93,-24.13 6.69,-24.13 ; 3.93,-21.59 6.69,-21.59 ; 3.93,-19.05 6.69,-19.05 ; 3.93,-16.51 6.69,-16.51 ; 3.93,-13.97 6.69,-13.97 ; 3.93,-11.43 6.69,-11.43 ; 3.93,-8.89 6.69,-8.89 ; 3.93,-6.35 6.69,-6.35 ; 3.93,-3.81 6.69,-3.81 ; 3.93,-1.27 6.69,-1.27 ; 6.69,-25.83 12.69,-25.83 12.69,-24.97 6.69,-24.97 ; 6.69,-23.29 12.69,-23.29 12.69,-22.43 6.69,-22.43 ; 6.69,-20.75 12.69,-20.75 12.69,-19.89 6.69,-19.89 ; 6.69,-18.21 12.69,-18.21 12.69,-17.35 6.69,-17.35 ; 6.69,-15.67 12.69,-15.67 12.69,-14.81 6.69,-14.81 ; 6.69,-13.13 12.69,-13.13 12.69,-12.27 6.69,-12.27 ; 6.69,-10.59 12.69,-10.59 12.69,-9.73 6.69,-9.73 ; 6.69,-8.05 12.69,-8.05 12.69,-7.19 6.69,-7.19 ; 6.69,-5.51 12.69,-5.51 12.69,-4.65 6.69,-4.65 ; 6.69,-2.97 12.69,-2.97 12.69,-2.11 6.69,-2.11 ; 3.93,-26.78 6.69,-26.78 6.69,1.38 3.93,1.38 3.93,-26.78 ; 6.69,-0.43 12.69,-0.43 12.69,0.43 6.69,0.43 6.69,-0.43
Top Assembly:
  lines w0.254: 4.04,-25.72 -0.32,-25.72 -0.32,-25.08 4.04,-25.08 ; 4.04,-23.18 -0.32,-23.18 -0.32,-22.54 4.04,-22.54 ; 4.04,-20.64 -0.32,-20.64 -0.32,-20 4.04,-20 ; 4.04,-18.1 -0.32,-18.1 -0.32,-17.46 4.04,-17.46 ; 4.04,-15.56 -0.32,-15.56 -0.32,-14.92 4.04,-14.92 ; 4.04,-13.02 -0.32,-13.02 -0.32,-12.38 4.04,-12.38 ; 4.04,-10.48 -0.32,-10.48 -0.32,-9.84 4.04,-9.84 ; 4.04,-7.94 -0.32,-7.94 -0.32,-7.3 4.04,-7.3 ; 4.04,-5.4 -0.32,-5.4 -0.32,-4.76 4.04,-4.76 ; 4.04,-2.86 -0.32,-2.86 -0.32,-2.22 4.04,-2.22 ; 4.04,-0.32 -0.32,-0.32 -0.32,0.32 4.04,0.32 ; 6.58,-25.72 12.58,-25.72 12.58,-25.08 6.58,-25.08 ; 6.58,-23.18 12.58,-23.18 12.58,-22.54 6.58,-22.54 ; 6.58,-20.64 12.58,-20.64 12.58,-20 6.58,-20 ; 6.58,-18.1 12.58,-18.1 12.58,-17.46 6.58,-17.46 ; 6.58,-15.56 12.58,-15.56 12.58,-14.92 6.58,-14.92 ; 6.58,-13.02 12.58,-13.02 12.58,-12.38 6.58,-12.38 ; 6.58,-10.48 12.58,-10.48 12.58,-9.84 6.58,-9.84 ; 6.58,-7.94 12.58,-7.94 12.58,-7.3 6.58,-7.3 ; 6.58,-5.4 12.58,-5.4 12.58,-4.76 6.58,-4.76 ; 6.58,-2.86 12.58,-2.86 12.58,-2.22 6.58,-2.22 ; 6.58,-0.32 12.58,-0.32 12.58,0.32 6.58,0.32 ; 4.04,-26.67 6.58,-26.67 6.58,1.27 4.675,1.27 4.04,0.635 4.04,-26.67
  text "'.Designator'" at 6.15,-16.747 h1
Top Courtyard:
  lines w0.254: -1.77,-27.17 13.09,-27.17 13.09,1.77 -1.77,1.77 -1.77,-27.17
Top Designator:
  text ".Designator" at -1.958,-13.208 h1.52

## PinHeader_2x11_P2.54mm_Vertical [mm]
pads (22):
  rect 1.7x1.7 hole 1: 1(0,0)
  round 1.7 hole 1: 2(2.54,0) 3(0,-2.54) 4(2.54,-2.54) 5(0,-5.08) 6(2.54,-5.08) 7(0,-7.62) 8(2.54,-7.62) 9(0,-10.16) 10(2.54,-10.16) 11(0,-12.7) 12(2.54,-12.7) 13(0,-15.24) 14(2.54,-15.24) 15(0,-17.78) 16(2.54,-17.78) 17(0,-20.32) 18(2.54,-20.32) 19(0,-22.86) 20(2.54,-22.86) 21(0,-25.4) 22(2.54,-25.4)
F.SilkS:
  lines w0.254: -1.38,0 -1.38,1.38 0,1.38 ; -1.38,-26.78 3.92,-26.78 3.92,1.38 1.27,1.38 1.27,-1.27 -1.38,-1.27 -1.38,-26.78
Top Assembly:
  lines w0.254: -1.27,-26.67 3.81,-26.67 3.81,1.27 0,1.27 -1.27,0 -1.27,-26.67
  text "'.Designator'" at 2.11,-16.747 h1
Top Courtyard:
  lines w0.254: -1.77,-27.17 4.32,-27.17 4.32,1.77 -1.77,1.77 -1.77,-27.17
Top Designator:
  text ".Designator" at -6.343,-13.208 h1.52

## PinHeader_2x11_P2.54mm_Vertical_SMD [mm]
pads (22):
  rect 3.15x1 smd: 1(-2.525,12.7) 2(2.525,12.7) 3(-2.525,10.16) 4(2.525,10.16) 5(-2.525,7.62) 6(2.525,7.62) 7(-2.525,5.08) 8(2.525,5.08) 9(-2.525,2.54) 10(2.525,2.54) 11(-2.525,0) 12(2.525,0) 13(-2.525,-2.54) 14(2.525,-2.54) 15(-2.525,-5.08) 16(2.525,-5.08) 17(-2.525,-7.62) 18(2.525,-7.62) 19(-2.525,-10.16) 20(2.525,-10.16) 21(-2.525,-12.7) 22(2.525,-12.7)
F.SilkS:
  lines w0.254: -4.04,13.51 -2.65,13.51 -2.65,14.08 2.65,14.08 2.65,13.51 ; -2.65,-13.51 -2.65,-14.08 2.65,-14.08 2.65,-13.51 ; -2.65,-11.89 -2.65,-10.97 ; -2.65,-9.35 -2.65,-8.43 ; -2.65,-6.81 -2.65,-5.89 ; -2.65,-4.27 -2.65,-3.35 ; -2.65,-1.73 -2.65,-0.81 ; -2.65,0.81 -2.65,1.73 ; -2.65,3.35 -2.65,4.27 ; -2.65,5.89 -2.65,6.81 ; -2.65,8.43 -2.65,9.35 ; -2.65,10.97 -2.65,11.89 ; 2.65,-11.89 2.65,-10.97 ; 2.65,-9.35 2.65,-8.43 ; 2.65,-6.81 2.65,-5.89 ; 2.65,-4.27 2.65,-3.35 ; 2.65,-1.73 2.65,-0.81 ; 2.65,0.81 2.65,1.73 ; 2.65,3.35 2.65,4.27 ; 2.65,5.89 2.65,6.81 ; 2.65,8.43 2.65,9.35 ; 2.65,10.97 2.65,11.89
Top Assembly:
  lines w0.254: -2.54,-13.02 -3.6,-13.02 -3.6,-12.38 -2.54,-12.38 ; -2.54,-10.48 -3.6,-10.48 -3.6,-9.84 -2.54,-9.84 ; -2.54,-7.94 -3.6,-7.94 -3.6,-7.3 -2.54,-7.3 ; -2.54,-5.4 -3.6,-5.4 -3.6,-4.76 -2.54,-4.76 ; -2.54,-2.86 -3.6,-2.86 -3.6,-2.22 -2.54,-2.22 ; -2.54,-0.32 -3.6,-0.32 -3.6,0.32 -2.54,0.32 ; -2.54,2.22 -3.6,2.22 -3.6,2.86 -2.54,2.86 ; -2.54,4.76 -3.6,4.76 -3.6,5.4 -2.54,5.4 ; -2.54,7.3 -3.6,7.3 -3.6,7.94 -2.54,7.94 ; -2.54,9.84 -3.6,9.84 -3.6,10.48 -2.54,10.48 ; -2.54,12.38 -3.6,12.38 -3.6,13.02 -2.54,13.02 ; 2.54,-13.02 3.6,-13.02 3.6,-12.38 2.54,-12.38 ; 2.54,-10.48 3.6,-10.48 3.6,-9.84 2.54,-9.84 ; 2.54,-7.94 3.6,-7.94 3.6,-7.3 2.54,-7.3 ; 2.54,-5.4 3.6,-5.4 3.6,-4.76 2.54,-4.76 ; 2.54,-2.86 3.6,-2.86 3.6,-2.22 2.54,-2.22 ; 2.54,-0.32 3.6,-0.32 3.6,0.32 2.54,0.32 ; 2.54,2.22 3.6,2.22 3.6,2.86 2.54,2.86 ; 2.54,4.76 3.6,4.76 3.6,5.4 2.54,5.4 ; 2.54,7.3 3.6,7.3 3.6,7.94 2.54,7.94 ; 2.54,9.84 3.6,9.84 3.6,10.48 2.54,10.48 ; 2.54,12.38 3.6,12.38 3.6,13.02 2.54,13.02 ; -2.54,13.02 -2.54,-13.97 2.54,-13.97 2.54,13.97 -1.59,13.97 -2.54,13.02
  text "'.Designator'" at 0.84,-4.047 h1
Top Courtyard:
  lines w0.254: -5.87,-14.47 5.88,-14.47 5.88,14.47 -5.87,14.47 -5.87,-14.47
Top Designator:
  text ".Designator" at -7.613,-0.508 h1.52

## PinHeader_2x12_P2.54mm_Horizontal [mm]
pads (24):
  rect 1.7x1.7 hole 1: 1(0,0)
  round 1.7 hole 1: 2(2.54,0) 3(0,-2.54) 4(2.54,-2.54) 5(0,-5.08) 6(2.54,-5.08) 7(0,-7.62) 8(2.54,-7.62) 9(0,-10.16) 10(2.54,-10.16) 11(0,-12.7) 12(2.54,-12.7) 13(0,-15.24) 14(2.54,-15.24) 15(0,-17.78) 16(2.54,-17.78) 17(0,-20.32) 18(2.54,-20.32) 19(0,-22.86) 20(2.54,-22.86) 21(0,-25.4) 22(2.54,-25.4) 23(0,-27.94) 24(2.54,-27.94)
F.SilkS:
  lines w0.254: -1.27,0 -1.27,1.27 0,1.27 ; 1.077,-28.37 1.463,-28.37 ; 1.077,-27.51 1.463,-27.51 ; 1.077,-25.83 1.463,-25.83 ; 1.077,-24.97 1.463,-24.97 ; 1.077,-23.29 1.463,-23.29 ; 1.077,-22.43 1.463,-22.43 ; 1.077,-20.75 1.463,-20.75 ; 1.077,-19.89 1.463,-19.89 ; 1.077,-18.21 1.463,-18.21 ; 1.077,-17.35 1.463,-17.35 ; 1.077,-15.67 1.463,-15.67 ; 1.077,-14.81 1.463,-14.81 ; 1.077,-13.13 1.463,-13.13 ; 1.077,-12.27 1.463,-12.27 ; 1.077,-10.59 1.463,-10.59 ; 1.077,-9.73 1.463,-9.73 ; 1.077,-8.05 1.463,-8.05 ; 1.077,-7.19 1.463,-7.19 ; 1.077,-5.51 1.463,-5.51 ; 1.077,-4.65 1.463,-4.65 ; 1.077,-2.97 1.463,-2.97 ; 1.077,-2.11 1.463,-2.11 ; 1.16,-0.43 1.463,-0.43 ; 1.16,0.43 1.463,0.43 ; 3.617,-28.37 3.93,-28.37 ; 3.617,-27.51 3.93,-27.51 ; 3.617,-25.83 3.93,-25.83 ; 3.617,-24.97 3.93,-24.97 ; 3.617,-23.29 3.93,-23.29 ; 3.617,-22.43 3.93,-22.43 ; 3.617,-20.75 3.93,-20.75 ; 3.617,-19.89 3.93,-19.89 ; 3.617,-18.21 3.93,-18.21 ; 3.617,-17.35 3.93,-17.35 ; 3.617,-15.67 3.93,-15.67 ; 3.617,-14.81 3.93,-14.81 ; 3.617,-13.13 3.93,-13.13 ; 3.617,-12.27 3.93,-12.27 ; 3.617,-10.59 3.93,-10.59 ; 3.617,-9.73 3.93,-9.73 ; 3.617,-8.05 3.93,-8.05 ; 3.617,-7.19 3.93,-7.19 ; 3.617,-5.51 3.93,-5.51 ; 3.617,-4.65 3.93,-4.65 ; 3.617,-2.97 3.93,-2.97 ; 3.617,-2.11 3.93,-2.11 ; 3.617,-0.43 3.93,-0.43 ; 3.617,0.43 3.93,0.43 ; 3.93,-26.67 6.69,-26.67 ; 3.93,-24.13 6.69,-24.13 ; 3.93,-21.59 6.69,-21.59 ; 3.93,-19.05 6.69,-19.05 ; 3.93,-16.51 6.69,-16.51 ; 3.93,-13.97 6.69,-13.97 ; 3.93,-11.43 6.69,-11.43 ; 3.93,-8.89 6.69,-8.89 ; 3.93,-6.35 6.69,-6.35 ; 3.93,-3.81 6.69,-3.81 ; 3.93,-1.27 6.69,-1.27 ; 6.69,-28.37 12.69,-28.37 12.69,-27.51 6.69,-27.51 ; 6.69,-25.83 12.69,-25.83 12.69,-24.97 6.69,-24.97 ; 6.69,-23.29 12.69,-23.29 12.69,-22.43 6.69,-22.43 ; 6.69,-20.75 12.69,-20.75 12.69,-19.89 6.69,-19.89 ; 6.69,-18.21 12.69,-18.21 12.69,-17.35 6.69,-17.35 ; 6.69,-15.67 12.69,-15.67 12.69,-14.81 6.69,-14.81 ; 6.69,-13.13 12.69,-13.13 12.69,-12.27 6.69,-12.27 ; 6.69,-10.59 12.69,-10.59 12.69,-9.73 6.69,-9.73 ; 6.69,-8.05 12.69,-8.05 12.69,-7.19 6.69,-7.19 ; 6.69,-5.51 12.69,-5.51 12.69,-4.65 6.69,-4.65 ; 6.69,-2.97 12.69,-2.97 12.69,-2.11 6.69,-2.11 ; 3.93,-29.32 6.69,-29.32 6.69,1.38 3.93,1.38 3.93,-29.32 ; 6.69,-0.43 12.69,-0.43 12.69,0.43 6.69,0.43 6.69,-0.43
Top Assembly:
  lines w0.254: 4.04,-28.26 -0.32,-28.26 -0.32,-27.62 4.04,-27.62 ; 4.04,-25.72 -0.32,-25.72 -0.32,-25.08 4.04,-25.08 ; 4.04,-23.18 -0.32,-23.18 -0.32,-22.54 4.04,-22.54 ; 4.04,-20.64 -0.32,-20.64 -0.32,-20 4.04,-20 ; 4.04,-18.1 -0.32,-18.1 -0.32,-17.46 4.04,-17.46 ; 4.04,-15.56 -0.32,-15.56 -0.32,-14.92 4.04,-14.92 ; 4.04,-13.02 -0.32,-13.02 -0.32,-12.38 4.04,-12.38 ; 4.04,-10.48 -0.32,-10.48 -0.32,-9.84 4.04,-9.84 ; 4.04,-7.94 -0.32,-7.94 -0.32,-7.3 4.04,-7.3 ; 4.04,-5.4 -0.32,-5.4 -0.32,-4.76 4.04,-4.76 ; 4.04,-2.86 -0.32,-2.86 -0.32,-2.22 4.04,-2.22 ; 4.04,-0.32 -0.32,-0.32 -0.32,0.32 4.04,0.32 ; 6.58,-28.26 12.58,-28.26 12.58,-27.62 6.58,-27.62 ; 6.58,-25.72 12.58,-25.72 12.58,-25.08 6.58,-25.08 ; 6.58,-23.18 12.58,-23.18 12.58,-22.54 6.58,-22.54 ; 6.58,-20.64 12.58,-20.64 12.58,-20 6.58,-20 ; 6.58,-18.1 12.58,-18.1 12.58,-17.46 6.58,-17.46 ; 6.58,-15.56 12.58,-15.56 12.58,-14.92 6.58,-14.92 ; 6.58,-13.02 12.58,-13.02 12.58,-12.38 6.58,-12.38 ; 6.58,-10.48 12.58,-10.48 12.58,-9.84 6.58,-9.84 ; 6.58,-7.94 12.58,-7.94 12.58,-7.3 6.58,-7.3 ; 6.58,-5.4 12.58,-5.4 12.58,-4.76 6.58,-4.76 ; 6.58,-2.86 12.58,-2.86 12.58,-2.22 6.58,-2.22 ; 6.58,-0.32 12.58,-0.32 12.58,0.32 6.58,0.32 ; 4.04,-29.21 6.58,-29.21 6.58,1.27 4.675,1.27 4.04,0.635 4.04,-29.21
  text "'.Designator'" at 6.15,-18.017 h1
Top Courtyard:
  lines w0.254: -1.77,-29.71 13.09,-29.71 13.09,1.77 -1.77,1.77 -1.77,-29.71
Top Designator:
  text ".Designator" at -1.958,-14.478 h1.52